# Altium schematic symbol library MS414GE-FL26E.SchLib: 1 symbol
Pins are listed as number, name and electrical type; pins without a type are passive.

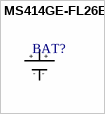
[diagram p0: symbol MS414GE-FL26E]

## MS414GE-FL26E
designator BAT?
3V 2mA Lithium Manganese Silicon Coin Cell Battery
pins: 1 +, 2 -